# EAGLE library part ATA6560-GAQW (library ATA6560-GAQW)
High-speed CAN Transceiver with Standby Mode Source: Datasheet <http://www.mouser.com/ds/2/36/atmel-9288-lin-networking-ata6560-ata6561_datashee-596746.pdf>
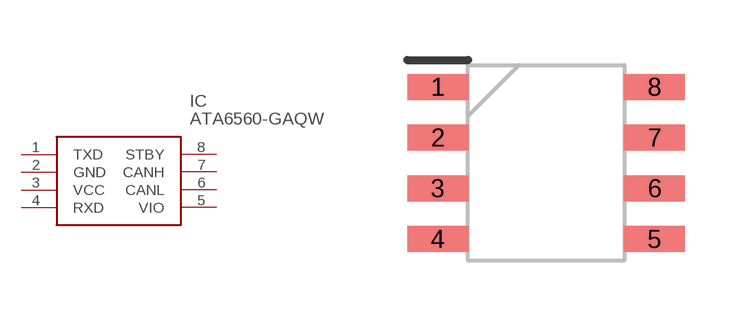
[diagram p0: symbol with the pads of SOIC127P600X180-8N; footprint SOIC127P600X180-8N]

Designator prefix IC

## ATA6560-GAQW (DESCRIPTION: High-speed CAN Transceiver with Standby Mode; HEIGHT: 1.8mm; MANUFACTURER_NAME: Microchip; MANUFACTURER_PART_NUMBER: ATA6560-GAQW; MOUSER_PART_NUMBER: 556-ATA6560-GAQW; MOUSER_PRICE-STOCK: https://www.mouser.com/Search/Refine.aspx?Keyword=556-ATA6560-GAQW)  [SOIC127P600X180-8N]
1  TXD
2  GND
3  VCC
4  RXD
5  VIO
6  CANL
7  CANH
8  STBY

## Footprint SOIC127P600X180-8N (pad centres in mm)
SO-8
smd 1.525 x 0.65: 1 -2.712,1.905; 2 -2.712,0.635; 3 -2.712,-0.635; 4 -2.712,-1.905; 5 2.712,-1.905; 6 2.712,-0.635; 7 2.712,0.635; 8 2.712,1.905